# Altium schematic symbol library KBU1010.SchLib: 1 symbol
Pins are listed as number, name and electrical type; pins without a type are passive.

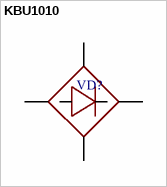
[diagram p0: symbol KBU1010]

## KBU1010
designator VD?  (value not drawn)
footprint KBU
pins: 1, 2, 3, 4